# Altium schematic symbol library Buffer Digital Isolator.SchLib: 2 symbols
Pins are listed as number, name and electrical type; pins without a type are passive.

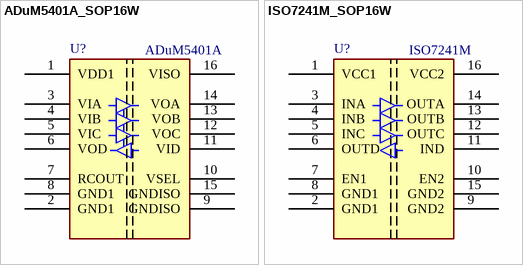
[diagram p0: symbols ADuM5401A_SOP16W to ISO7241M_SOP16W]

## ADuM5401A_SOP16W
designator U?, comment ADuM5401A
Isolator, Quad, Integrated DC2DC 500mW; MANF: Analog Device; MANF_P#: ADuM5401ARWZ; PARAM2: 3~5.5Vcc, 500mW, 40ns PWDist; PARAM: 1Mbps, 100ns Tpd, -40~105°C; PRICE: 12$; VALUE: ADuM5401A
footprint SO_16_W (SOP, SOIC, 7.5mm width, 1.27mm pitch,)
pins: 1 VDD1 (power), 2 GND1, 3 VIA, 4 VIB, 5 VIC, 6 VOD, 7 RCOUT, 8 GND1, 9 GNDISO, 10 VSEL, 11 VID, 12 VOC, 13 VOB, 14 VOA, 15 GNDISO, 16 VISO

## ISO7241M_SOP16W
designator U?, comment ISO7241M
Isolator, Quad,; MANF: Texas Instrument; MANF_P#: ISO7241MDW; PARAM2: 3.3/5Vcc, 2ns PWDist; PARAM: 150Mbps, 1ns Tpd, -40~105°C; PRICE: 6$; VALUE: ISO7241M
footprint SO_16_W (SOP, SOIC, 7.5mm width, 1.27mm pitch,)
pins: 1 VCC1 (power), 2 GND1 (power), 3 INA (power), 4 INB (power), 5 INC (power), 6 OUTD (power), 7 EN1 (power), 8 GND1 (power), 9 GND2 (power), 10 EN2 (power), 11 IND (power), 12 OUTC (power), 13 OUTB (power), 14 OUTA (power), 15 GND2 (power), 16 VCC2 (power)